# EAGLE library part 502352-0400 (library 502352-0400)
Molex DURACLIK 502352, 2mm Pitch, 4 Way, 1 Row, Right Angle PCB Header, Surface Mount Source: Datasheet <https://www.molex.com/webdocs/datasheets/pdf/en-us/5023520400_PCB_HEADERS.pdf>
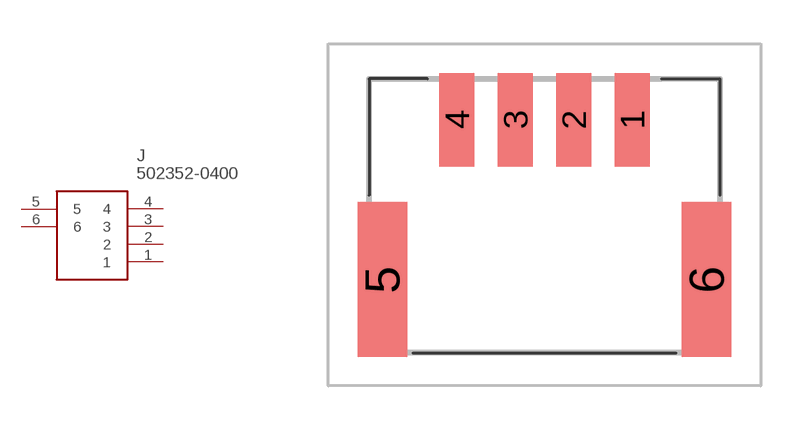
[diagram p0: symbol with the pads of 5023520400; footprint 5023520400]

Designator prefix J

## 502352-0400 (Description: Molex DURACLIK 502352, 2mm Pitch, 4 Way, 1 Row, Right Angle PCB Header, Surface Mount; Height: 6mm; Manufacturer_Name: Molex; Manufacturer_Part_Number: 502352-0400)  [5023520400]
1  1
2  2
3  3
4  4
5  5
6  6

## Footprint 5023520400 (pad centres in mm)
502352-0400
smd 1.2 x 3.2: 1 3,3.265; 2 1,3.265; 3 -1,3.265; 4 -3,3.265
smd 1.7 x 5.3: 5 -5.55,-2.215; 6 5.55,-2.215